# Altium schematic symbol library FRONT-UNIT-71.SCHLIB: 52 symbols
Pins are listed as number, name and electrical type; pins without a type are passive.

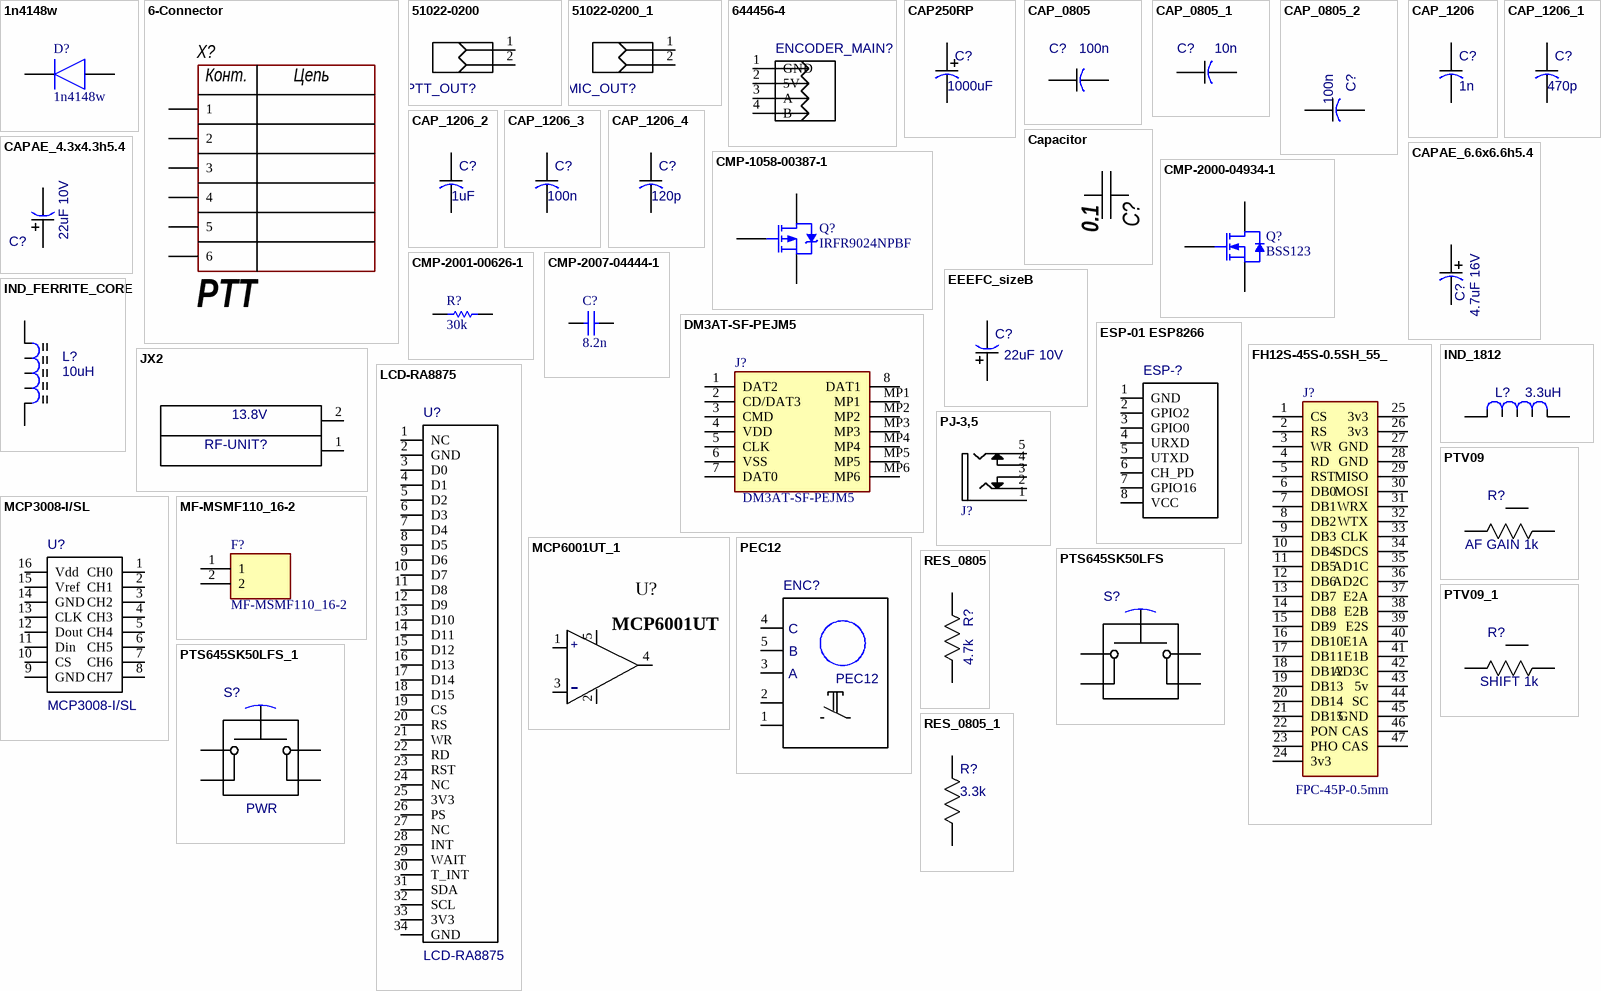
[diagram p0: symbols 1n4148w to RES_0805_1]

## 1n4148w
designator D?
Diode; Manufacturer_Name: Vishay; Datasheet Link: http://www.vishay.com/docs/85748/1n4148w.pdf; Height: 1.35mm; Manufacturer_Part_Number: 1n4148w
footprint SOD3716X135N
pins: 1 K, 2 A

## 6-Connector
designator X?, comment PTT
Model: *; Manufacturer: *; HelpURL: *; ComponentKind: *
footprint CON: 0533750610 (MOLEX Mini-Lock)
footprint CON: IDC-6MS (IDC-6MS 6 pin PCB-mount connector)
footprint CON: PBD-6 (PBD-6)
footprint CON: PBS-6 (PBS-6)
footprint CON: PLD-6
footprint CON: PLS-6
footprint CON: PLD-6
footprint CON: PWL-6
footprint CON: WF-06
pins: 1, 2, 3 (power), 4 (power), 5 (power), 6 (power)
text: Конт.; Цепь

## 51022-0200
designator PTT_OUT?, comment PTT_OUT  (value not drawn)
51022-0200
footprint HDR-1x2T/2.54/5x2
footprint 51022-0200
pins: 1, 2

## 51022-0200_1
designator MIC_OUT?, comment MIC_OUT  (value not drawn)
51022-0200
footprint HDR-1x2T/2.54/5x2
footprint 51022-0200
pins: 1, 2

## 644456-4
designator ENCODER_MAIN?, comment OPTICAL ENCODER  (value not drawn)
footprint HDR-1x4T/2.54/10x2
footprint 644456-4
pins: 1 GND, 2 5V, 3 A, 4 B

## CAP250RP
designator C?, comment 1000uF
CAP250RP; Value: 1000uF
footprint CAPPR-6.35/8.9
footprint CAP250RP
pins: 1 PLUS, 2 MINUS

## CAP_0805
designator C?, comment 100n
CAP_0805; Value: 100n
footprint CAP_0805
pins: 1, 2

## CAP_0805_1
designator C?, comment 10n
CAP_0805
footprint CAP_0805
pins: 1, 2

## CAP_0805_2
designator C?, comment 100n
CAP_0805; Value: 100n
footprint CAP_0805
pins: 1, 2

## CAP_1206
designator C?, comment 1n
CAP_1206; Value: 1n
footprint CAP_1206
pins: 1, 2

## CAP_1206_1
designator C?, comment 470p
CAP_1206
footprint CAP_1206
pins: 1, 2

## CAP_1206_2
designator C?, comment 1uF
CAP_1206; Value: 1uF
footprint CAP_1206
pins: 1, 2

## CAP_1206_3
designator C?, comment 100n
CAP_1206; Value: 100n
footprint CAP_1206
pins: 1, 2

## CAP_1206_4
designator C?, comment 120p
CAP_1206
footprint CAP_1206
pins: 1, 2

## Capacitor
designator C?, comment 0.1
Manufacturer: *; Model: *; HelpURL: *; ComponentKind: *; Value: *
footprint CH0201C
footprint CH0402C
footprint CH0603C (Chip Capacitor, 2-Leads, Body 1,53x0,85mm, IPC Medium Density)
footprint CH0805C (Chip Capacitor, 2-Leads, Body 2,00x1,20mm, IPC Medium Density)
footprint CH1206C (Non polar chip capacitor, size 1206)
footprint CH1210C (Non polar chip capacitor, size 1210)
footprint CH1812C
footprint CH2220C
footprint CAP: B32021
footprint CAP: B32522
footprint CAP: B32654
footprint CAP: B32774
footprint CAP: B32776
footprint CAP: ECW
footprint CAP: EZPE
footprint CAP: B32676
footprint CH-DIP
footprint CH0805C (Chip Capacitor, 2-Leads, Body 2,00x1,20mm, IPC Medium Density)
pins: 1 (power), 2 (power)

## CAPAE_4.3x4.3h5.4
designator C?, comment 22uF 10V
CAPAE_4.3x4.3h5.4; Value: 22uF 10V
footprint TC_1411
footprint CAPAE_4.3x4.3h5.4
pins: 1 PLUS, 2 MINUS

## CAPAE_6.6x6.6h5.4
designator C?, comment 4.7uF 16V
CAPAE_6.6x6.6h5.4; Value: 4.7uF 16V
footprint CAPAE-6.6x6.6h5.4
footprint CAPAE_6.6x6.6h5.4
pins: 1 PLUS, 2 MINUS

## CMP-1058-00387-1
designator Q?, comment IRFR9024NPBF
IRFR9024NPBF, Транзистор, Р-канал 55В 11А; Manufacturer: On Semiconductor; PartNumber: NTD2955G; Ciss Typ (pF): 500; Qrr Typ (nC): 100; VGS Max (V): 20; PD Max (W): 55; Channel Polarity: P Channel; V(BR)DSS Min (V): 60; ID Max (A): 12; Configuration: Single; Crss Typ (pF): 50; Packing: Tape and Reel; VGS(th) Max (V): 4; Coss Typ (pF): 150; RoHS: Pb-Free; ComponentLink1Description: Manufacturer URL; Mounting Technology: Surface Mount; ComponentLink2URL: http://www.onsemi.cn/pub_link/Collateral/NTD2955-D.PDF; PackageDescription: 3-Pin Flange Mount, Body 6.54 x 6.095 mm, Pitch 2.29 mm; ComponentLink3Description: Package Specification; Package Type: DPAK-3, IPAK-4; ComponentLink3URL: http://www.onsemi.cn/pub_link/Collateral/369C.PDF; DatasheetVersion: Rev. 13; ComponentLink2Description: Datasheet; ComponentLink1URL: http://www.onsemi.com/; PackageVersion: Rev. E, 02/2014; PackageReference: DPAK-3-369C-01
footprint ONSC-DPAK-3-369C-01_V (DPAK, 3-Leads, Body 6.54x6.095mm, Pitch 2.29mm)
pins: 1 G, 3 S, 4 D

## CMP-2000-04934-1
designator Q?, comment BSS123
N-Channel Logic Level Enhancement Mode Field Effect Transistor, 1.7 V, -55 to 150 degC, 3-Pin SOT-23, RoHS, Tape and Reel; Manufacturer: Fairchild; Channel Type: N; Typical Turn-Off Delay Time: 17ns; Maximum Continuous Drain Current: 0.17A; Rad Hard: No; Typical Rise Time: 9ns; Typical Fall Time: 2.4ns; Maximum Gate Source Voltage: ±20V; Maximum Drain Source Voltage: 100V; Typical Turn-On Delay Time: 1.7ns; RDS-on: 6000@10VmOhm; Package Version: Rev. 12, 03/2016; Packaging: Tape&Reel; Package Reference: SOT23-3; Channel Mode: Enhancement; Operating Temperature: -55to150degC; Package Description: 3-Pin Small Outline Transistor, Body 2.92 x 1.325 mm, Pitch 0.95 mm; Category: MOSFET; Datasheet Version: Jun-03; Datasheet URL: https://www.fairchildsemi.com/datasheets/BS/BSS123.pdf; Manufacturer URL: https://www.fairchildsemi.com/; Mounting: SurfaceMount; Package: 3SOT-23; Package URL: http://www.fairchildsemi.com/dwg/MA/MA03D.pdf
footprint FAIR-SOT23-3_V (SOT23, 3-Leads, Body 2.92x1.3mm, Pitch 0.95mm)
pins: 1 G, 2 S, 3 D

## CMP-2001-00626-1
designator R?, comment 30k
RES_0805; Manufacturer: Panasonic; Part Number: ERA-6AEB303V
footprint RESC2013X60X40NL20T25 (Chip Resistor, 2-Leads, Body 2.00x1.25mm, IPC Medium Density)
footprint RESC2013X60X40LL20T25 (Chip Resistor, 2-Leads, Body 2.00x1.25mm, IPC High Density)
footprint RESC2013X60X40ML20T25 (Chip Resistor, 2-Leads, Body 2.00x1.25mm, IPC Low Density)
pins: 1, 2
1 alternate drawing of the same symbol

## CMP-2007-04444-1
designator C?, comment 8.2n
CAP_1206; Manufacturer: AVX Interconnect / Elco; Part Number: 08055C822KAT2A
footprint CAPC2013X94X50LL20T25 (Chip Capacitor, 2-Leads, Body 2.01x1.25mm, IPC High Density)
footprint CAPC2013X94X50ML20T25 (Chip Capacitor, 2-Leads, Body 2.01x1.25mm, IPC Low Density)
footprint CAPC2013X94X50NL20T25 (Chip Capacitor, 2-Leads, Body 2.01x1.25mm, IPC Medium Density)
pins: 1, 2
1 alternate drawing of the same symbol

## DM3AT-SF-PEJM5
designator J?
Connector; Manufacturer_Name: HRS(Hirose); Datasheet Link: https://datasheet.lcsc.com/szlcsc/Hirose-HRS-DM3AT-SF-PEJM5_C114218.pdf; Height: 1.83mm; Manufacturer_Part_Number: DM3AT-SF-PEJM5
footprint DM3ATSFPEJM5
pins: 1 DAT2, 2 CD/DAT3, 3 CMD, 4 VDD, 5 CLK, 6 VSS, 7 DAT0, 8 DAT1, MP1, MP2, MP3, MP4, MP5, MP6

## EEEFC_sizeB
designator C?, comment 22uF 10V
EEEFC_sizeB; Value: 22uF 10V
footprint TC_1411
footprint EEEFC_sizeB
pins: 1 PLUS, 2 MINUS

## ESP-01 ESP8266
designator ESP-?  (value not drawn)
Value: ESP-01 ESP8266
footprint ESP-01 ESP8266
pins: 1 GND, 2 GPIO2, 3 GPIO0, 4 URXD, 5 UTXD, 6 CH_PD, 7 GPIO16, 8 VCC

## FH12S-45S-0.5SH_55_
designator J?, comment FPC-45P-0.5mm
Connector; Manufacturer_Name: Hirose; Manufacturer_Part_Number: FH12S-45S-0.5SH(55); Datasheet Link: https://www.hirose.com/product/en/download_file/key_name/FH12S-45S-0.5SH%2855%29/category/Drawing%20(2D)/doc_file_id/43881/?file_category_id=6&item_id=05860665055&is_series=; Height: 2mm; Mouser Part Number: 798-FH12S-45S-05SH55; Mouser Price/Stock: https://www.mouser.co.uk/ProductDetail/Hirose-Connector/FH12S-45S-05SH55?qs=0N%252BVULUZFj%252BE0LA99Ny0NA%3D%3D; RS Part Number: 1620942; RS Price/Stock: http://uk.rs-online.com/web/p/products/1620942
footprint FH12S45S05SH60
pins: 1 CS, 2 RS, 3 WR, 4 RD, 5 RST, 6 DB0, 7 DB1, 8 DB2, 9 DB3, 10 DB4, 11 DB5, 12 DB6, 13 DB7, 14 DB8, 15 DB9, 16 DB10, 17 DB11, 18 DB12, 19 DB13, 20 DB14, 21 DB15, 22 PON, 23 PHO, 24 3v3, 25 3v3, 26 3v3, 27 GND, 28 GND, 29 MISO, 30 MOSI, 31 WRX, 32 WTX, 33 CLK, 34 SDCS, 35 AD1C, 36 AD2C, 37 E2A, 38 E2B, 39 E2S, 40 E1A, 41 E1B, 42 AD3C, 43 5v, 44 SC, 45 GND, 46 CAS, 47 CAS

## IND_1812
designator L?, comment 3.3uH
IND_1812; Value: 3.3uH
footprint IND_1812
pins: 1, 2

## IND_FERRITE_CORE
designator L?, comment 10uH
Inductor; Value: 10uH
footprint B82464Z4
footprint IND_FERRITE_CORE
pins: 1 A, 2 B

## JX2
designator RF-UNIT?  value 13.8V  (hidden comment: JX2)
footprint TBH-1x2/3.81/8x3
footprint JX2
pins: 1 2, 2 1

## LCD-RA8875
designator U?
Value: *
footprint LCD-RA8875
pins: 1 NC, 2 GND, 3 D0, 4 D1, 5 D2, 6 D3, 7 D4, 8 D5, 9 D6, 10 D7, 11 D8, 12 D9, 13 D10, 14 D11, 15 D12, 16 D13, 17 D14, 18 D15, 19 CS, 20 RS, 21 WR, 22 RD, 23 RST, 24 NC, 25 3V3, 26 PS, 27 NC, 28 INT, 29 WAIT, 30 T_INT, 31 SDA, 32 SCL, 33 3V3, 34 GND

## MCP3008-I/SL
designator U?
Value: MCP3008-I/SL
footprint SOIC-16/150mil
footprint MCP3008-I/SL
pins: 1 CH0, 2 CH1, 3 CH2, 4 CH3, 5 CH4, 6 CH5, 7 CH6, 8 CH7, 9 GND, 10 CS, 11 Din, 12 Dout, 13 CLK, 14 GND, 15 Vref, 16 Vdd

## MCP6001UT_1
designator U?, comment MCP6001UT
footprint SOT23-5 (SOT23, 5-Leads, Body 2,90x2,80mm, Pitch 0,95mm, IPC Medium Density)
pins: 1, 2, 3, 4, 5
text: +; -

## MF-MSMF110_16-2
designator F?
Fuse; Manufacturer_Name: Bourns; Manufacturer_Part_Number: MF-MSMF110/16-2; Allied_Number: 70153434; Datasheet Link: https://componentsearchengine.com/Datasheets/2/MF-MSMF110_16-2.pdf; Height: 0.85mm; Mouser Part Number: 652-MF-MSMF110/16-2; Mouser Price/Stock: https://www.mouser.co.uk/ProductDetail/Bourns/MF-MSMF110-16-2?qs=wksszfECgvir54ST3ixUHA%3D%3D; RS Part Number: 6478207P; RS Price/Stock: http://uk.rs-online.com/web/p/products/6478207P; Allied Price/Stock: https://www.alliedelec.com/bourns-mf-msmf110-16-2/70153434/
footprint FUSC4632X85N
pins: 1, 2

## PEC12
designator ENC?
FULLNAME: Выключатель замыкающий с приводом нажатием кнопки; Value: PEC12
footprint PEC12
pins: 1, 2, 3 A, 4 C, 5 B

## PJ-3,5
designator J?  (value not drawn)
footprint 3.5-stereo
footprint Audio-PJ-392
pins: 1 8, 2 7, 3 6, 4 5, 5 4

## PTS645SK50LFS
designator S?  (value not drawn)
footprint PTS645SK50LFS
pins: 1 A, 2 A, 3 B, 4 B

## PTS645SK50LFS_1
designator S?, comment value PWR  (hidden comment: PTS645SK50LFS)
footprint PTS645SK50LFS
pins: 1 A, 2 A, 3 B, 4 B

## PTV09
designator R?, comment value AF GAIN 1k  (hidden comment: ptv09a-4225f-b102)
Adjustable Resistor PTV09
footprint PTV09
pins: 1 CW, 2 W, 3 CCW

## PTV09_1
designator R?, comment value SHIFT 1k  (hidden comment: ptv09a-4225f-b102)
Adjustable Resistor PTV09
footprint PTV09
pins: 1 CW, 2 W, 3 CCW

## RES_0805
designator R?, comment 4.7k
RES_0805; Value: 4.7k
footprint RES_0805
pins: 1, 2

## RES_0805_1
designator R?, comment 3.3k
RES_0805; Value: 3.3k
footprint RES_0805
pins: 1, 2

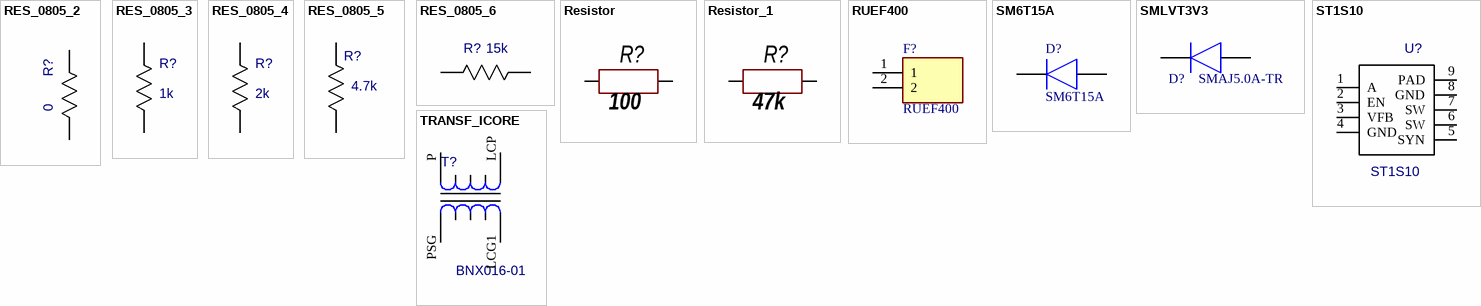
[diagram p1: symbols RES_0805_2 to TRANSF_ICORE]

## RES_0805_2
designator R?, comment 0
RES_0805; Value: 0
footprint RES_0805
pins: 1, 2

## RES_0805_3
designator R?, comment 1k
RES_0805
footprint RES_0805
pins: 1, 2

## RES_0805_4
designator R?, comment 2k
RES_0805
footprint RES_0805
pins: 1, 2

## RES_0805_5
designator R?, comment 4.7k
RES_0805
footprint RES_0805
pins: 1, 2

## RES_0805_6
designator R?, comment 15k
RES_0805
footprint RES_0805
pins: 1, 2

## Resistor
designator R?, comment 100
Manufacturer: *; Model: *; HelpURL: *; ComponentKind: *; Value: *
footprint CH0201R
footprint CH0402R
footprint CH0603R
footprint CH0805R
footprint CH1206R (Chip Resistor, 2-Leads, Body 3,0x1,5mm, IPC Low Density)
footprint CH2010R
footprint CH2512R
footprint R-DIP
pins: 1, 2

## Resistor_1
designator R?, comment 47k
Manufacturer: *; Model: *; HelpURL: *; ComponentKind: *; Value: *
footprint CH0201R
footprint CH0402R
footprint CH0603R
footprint CH0805R
footprint CH1206R (Chip Resistor, 2-Leads, Body 3,0x1,5mm, IPC Low Density)
footprint CH2010R
footprint CH2512R
footprint R-DIP
pins: 1, 2

## RUEF400
designator F?
Fuse; Manufacturer_Name: LITTELFUSE; Datasheet Link: https://componentsearchengine.com/Datasheets/1/RUEF400.pdf; Height: 19mm; Manufacturer_Part_Number: RUEF400; Mouser Part Number: 650-RUEF400; Mouser Price/Stock: https://www.mouser.co.uk/ProductDetail/Littelfuse/RUEF400?qs=hv6pn79dJPQHuFVnpNF%2FDg%3D%3D; RS Part Number: 5176837P; RS Price/Stock: http://uk.rs-online.com/web/p/products/5176837P
footprint RUEF400
pins: 1, 2

## SM6T15A
designator D?
Diode; Manufacturer_Name: STMicroelectronics; Allied_Number: 70390432; Datasheet Link: http://www.st.com/web/en/resource/technical/document/datasheet/CD00000725.pdf; Height: 2.65mm; Manufacturer_Part_Number: SM6T15A; Mouser Part Number: 511-SM6T15A; Mouser Price/Stock: https://www.mouser.com/Search/Refine.aspx?Keyword=511-SM6T15A; RS Part Number: 4864915P; RS Price/Stock: http://uk.rs-online.com/web/p/products/4864915P; Allied Price/Stock: http://www.alliedelec.com/stmicroelectronics-sm6t15a/70390432/
footprint SMBJ36CATR
pins: 1 K, 2 A

## SMLVT3V3
designator D?, comment SMAJ5.0A-TR
Diode; Manufacturer_Name: STMicroelectronics; Manufacturer_Part_Number: SMLVT3V3; Allied_Number: 70013736; Datasheet Link: http://www.st.com/web/en/resource/technical/document/datasheet/CD00000923.pdf; Height: 2.65mm; Mouser Part Number: 511-SMLVT3V3; Mouser Price/Stock: https://www.mouser.com/Search/Refine.aspx?Keyword=511-SMLVT3V3; RS Part Number: 5444821P; RS Price/Stock: http://uk.rs-online.com/web/p/products/5444821P; Allied Price/Stock: http://www.alliedelec.com/stmicroelectronics-smlvt3v3/70013736/; LCSC Part #: test
footprint SMBJ36CATR
pins: 1 K, 2 A

## ST1S10
designator U?
Value: ST1S10
footprint SOIC-8V2EP/150mil
footprint ST1S10
pins: 1 A, 2 EN, 3 VFB, 4 GND, 5 SYN, 6 SW, 7 SW, 8 GND, 9 PAD

## TRANSF_ICORE
designator T?, comment BNX016-01
Value: BNX016-01
footprint BNX016
footprint TRANSF_ICORE
pins: LCG1 S2, LCP P2, P P1, PSG S1